# Altium schematic symbol library BTS133TC.SchLib: 1 symbol
Pins are listed as number, name and electrical type; pins without a type are passive.

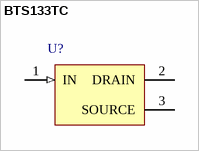
[diagram p0: symbol BTS133TC]

## BTS133TC
designator U?
Smart Low-Side Power Switch HITFET, 60 V VDS, 7 A ID, -40 to 150 degC, PG-TO263-3-2, Reel, Green; Manufacturer: Infineon; PartNumber: BTS133TC; Channels: 1; Green: TRUE; ID: 7 A; ID(nom): 3.8 A; ID(lim) (min): 21 A; ISC (max): 64 A; Ptot (max): 90 mW; RDS (on)(max): 50 mOhm; ton (max): 100 us; toff (max): 170 us; VDS (max): 60 V; DatasheetVersion: Rev. 1.0; PackageVersion: Jul-09; PackageReference: PG-TO263-3-2; PackageDescription: 3-Pin Plastic (Green) Transistor Single Outline Package, 10 x 9.25 mm Body, 2.54 mm Pitch; Supplier 1: Digi-Key; Supplier Part Number 1: BTS133TCTR-ND; Supplier 2: Digi-Key; Supplier Part Number 2: BTS133TCCT-ND; Supplier 3: Digi-Key; Supplier Part Number 3: BTS133TCDKR-ND; Supplier 4: Mouser; Supplier Part Number 4: 726-BTS133TC; Group: HITFET; Halogen-free: FALSE; Packing: Reel; Mounting Technology: Surface Mount; ComponentLink1Description: Manufacturer URL; ComponentLink1URL: http://www.infineon.com/; ComponentLink2Description: Datasheet; ComponentLink2URL: http://www.infineon.com/dgdl/BTS133TC_DS_10.pdf?folderId=db3a304412b407950112b434dac161e7&fileId=db3a3043242ebc9e01242f40dc3f002b&location=en.Products.Automotive_ICs.Smart_High-_and_Low-Side_Switches.HITFET___TEMPFET__-_Smart_Low-Side_Switches.DATASHEET.BTS133TC_DS_10.pdf; ComponentLink3Description: Package Specification; ComponentLink3URL: http://www.infineon.com/dgdl/BTS141TC_DS_10.pdf?folderId=db3a3043163797a6011667aa084c0e01&fileId=db3a3043242ebc9e01242f43f58b003e&location=en.Products.Automotive_ICs.Smart_High-_and_Low-Side_Switches.HITFET___TEMPFET__-_Smart_Low-Side_Switches.DATASHEET.BTS141TC_DS_10.pdf
footprint INF-PG-TO263-3-2_N (DPAK, 3-Leads, Body 10x9.25mm, Pitch 2.54mm, IPC Medium Density)
footprint INF-PG-TO263-3-2_L (DPAK, 3-Leads, Body 10x9.25mm, Pitch 2.54mm, IPC High Density)
footprint INF-PG-TO263-3-2_M (DPAK, 3-Leads, Body 10x9.25mm, Pitch 2.54mm, IPC Low Density)
pins: 1 IN (in), 2 DRAIN (power), 3 SOURCE (power)